# EAGLE library part TXB0104 (library chips)
4-BIT BIDIRECTIONAL VOLTAGE-LEVEL TRANSLATOR
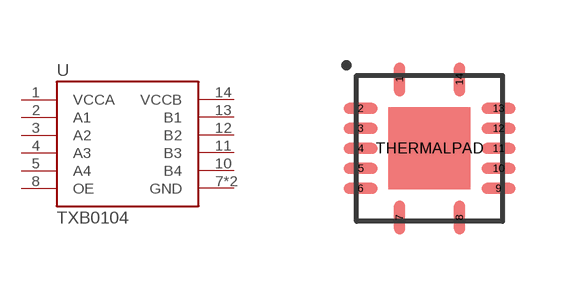
[diagram p8: symbol with the pads of S-PVQFN-N14; footprint S-PVQFN-N14]

Designator prefix U

## TXB0104RGY (DIGIKEY: 296-21930-1-ND)  [S-PVQFN-N14]
1  VCCA
2  A1
3  A2
4  A3
5  A4
7  GND
8  OE
10  B4
11  B3
12  B2
13  B1
14  VCCB
THERMALPAD  GND

## Footprint S-PVQFN-N14 (pad centres in mm)
smd 0.28 x 0.85: 1 -0.75,1.725; 7 -0.75,-1.725; 8 0.75,-1.725; 14 0.75,1.725
smd 0.85 x 0.28: 2 -1.725,1; 3 -1.725,0.5; 4 -1.725,0; 5 -1.725,-0.5; 6 -1.725,-1; 9 1.725,-1; 10 1.725,-0.5; 11 1.725,0; 12 1.725,0.5; 13 1.725,1
smd 2.05 x 2.05: THERMALPAD 0,0